# Altium footprint library DF2B5M4CT,L3F.PcbLib: 3 footprints
Each footprint in its own frame and in the unit in brackets; x right, y up, seen from the top. Pads: shape width x height; smd on the part's side, far side on the other; paste and mask are expansions set on the pad; w line width, h text height; cw(c..) or ccw(c..) is an arc to the next point about the centre after c.
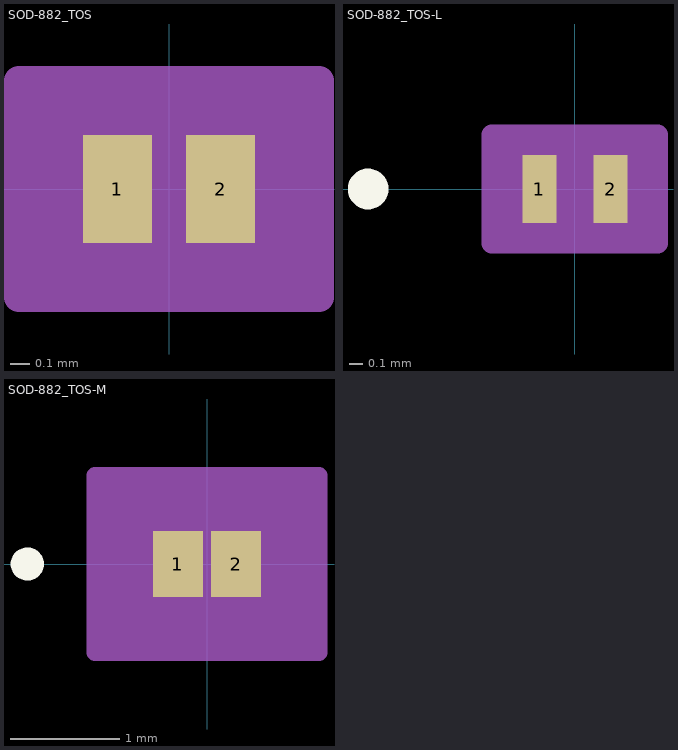
[diagram p0: the footprints below, top view; thin cyan lines are the x and y axes]

## SOD-882_TOS [mil]
pads (2):
  rect 14x22 smd paste+0 mask-1: 1(-10.5,0) 2(10.5,0)
Top Overlay:
  text ".Designator" at -137.5,-25 h50
Mechanical 13:
  circle w1: c0,0 r0
  lines w1: -20.5,-12 20.5,-12 20.5,12 -20.5,12 -20.5,-12
  text ".Designator" at -137.5,-25 h50
Mechanical 15:
  region: -30.5,-21 -30.5,21 -30.5,22 30.5,22 30.5,21 30.5,-21 30.5,-22 -30.5,-22
  lines w6: -30.5,-21 -30.5,21 ; -30.5,-21 -30.5,-21 ; -30.5,-21 -30.5,-22 30.5,-22 30.5,-21 ; -30.5,21 -30.5,21 ; -30.5,21 -30.5,22 30.5,22 30.5,21 ; 30.5,-21 30.5,21 ; 30.5,-21 30.5,-21 ; 30.5,21 30.5,21
3D body "SOD-882_TOS.step": height 16.1, standoff 0, extent -20.51,-12.01 20.51,12.01

## SOD-882_TOS-L [mil]
pads (2):
  rect 10x20 smd paste+0 mask+0: 1(-10.5,0) 2(10.5,0)
Top Overlay:
  circle w6: c-61,0 r3
  text ".Designator" at -137.5,-25 h50
Mechanical 13:
  circle w1: c0,0 r3
  lines w1: -20.5,-12 20.5,-12 20.5,12 -20.5,12 -20.5,-12
  text ".Designator" at -137.5,-25 h50
Mechanical 15:
  region: -24.5,-14 -24.5,14 -24.5,16 24.5,16 24.5,14 24.5,-14 24.5,-16 -24.5,-16
  lines w6: -24.5,-14 -24.5,14 ; -24.5,-14 -24.5,-14 ; -24.5,-14 -24.5,-16 24.5,-16 24.5,-14 ; -24.5,14 -24.5,14 ; -24.5,14 -24.5,16 24.5,16 24.5,14 ; 24.5,-14 24.5,14 ; 24.5,-14 24.5,-14 ; 24.5,14 24.5,14
3D body "SOD-882_TOS.step": height 16.1, standoff 0, extent -20.51,-12.01 20.51,12.01

## SOD-882_TOS-M [mil]
pads (2):
  rect 18x24 smd paste+0 mask+0: 1(-10.5,0) 2(10.5,0)
Top Overlay:
  circle w6: c-65,0 r3
  text ".Designator" at -137.5,-25 h50
Mechanical 13:
  circle w1: c0,0 r3
  lines w1: -20.5,-12 20.5,-12 20.5,12 -20.5,12 -20.5,-12
  text ".Designator" at -137.5,-25 h50
Mechanical 15:
  region: -40.5,-32 -40.5,32 40.5,32 40.5,-32
  lines w6: -40.5,-32 -40.5,32 ; -40.5,-32 -40.5,-32 ; -40.5,-32 -40.5,-32 ; -40.5,-32 40.5,-32 ; -40.5,32 -40.5,32 ; -40.5,32 -40.5,32 ; -40.5,32 40.5,32 ; 40.5,-32 40.5,32 ; 40.5,-32 40.5,-32 ; 40.5,-32 40.5,-32 ; 40.5,32 40.5,32 ; 40.5,32 40.5,32
3D body "SOD-882_TOS.step": height 16.1, standoff 0, extent -20.51,-12.01 20.51,12.01